# Altium integrated library CANnode.IntLib: 1 symbol
Pins are listed as number, name and electrical type; pins without a type are passive.

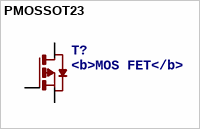
[diagram p0: symbol PMOSSOT23]

## PMOSSOT23
designator T?, comment <b>MOS FET</b>
OC_FARNELL: unknown; OC_NEWARK: unknown
footprint SOT-23
pins: 1 D, 2 S, 3 G